# Altium schematic symbol library AP331AWG-7.SchLib: 1 symbol
Pins are listed as number, name and electrical type; pins without a type are passive.

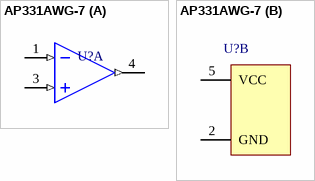
[diagram p0: symbol AP331AWG-7]

## AP331AWG-7
designator U?
part A pins: 1 IN- (in), 3 IN+ (in), 4 OUT (out)
part B pins: 2 GND (power), 5 VCC (power)